# EAGLE library part CAT24C256WI-GT3 (library farnell-parts)
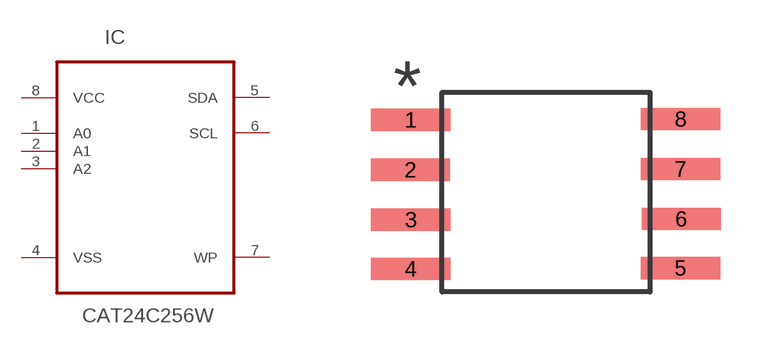
[diagram p0: symbol with the pads of SOIC127P600X175-8N; footprint SOIC127P600X175-8N]

Designator prefix IC

## CAT24C256WI-GT3 (DESCRIPTION: 256-Kb I2C CMOS Serial EEPROM; MPN: CAT24C256WI-GT3; OC_FARNELL: 1718127; OC_NEWARK: 08R5412; PACKAGE: SOIC-8; SUPPLIER: CATALYST SEMICONDUCTOR)  [SOIC127P600X175-8N]
1  A0  in
2  A1  in
3  A2  in
4  VSS  pas
5  SDA
6  SCL  in
7  WP  in
8  VCC  pwr

## Footprint SOIC127P600X175-8N (pad centres in mm)
smd 1.981 x 0.559: 1 -2.664,1.715; 2 -2.674,0.465; 3 -2.664,-0.785; 4 -2.664,-2.015; 5 4.084,-1.995; 6 4.104,-0.765; 7 4.084,0.485; 8 4.084,1.735